# EAGLE library part RPI_ZERO_CONN (library dawidkulpa_con)
Raspberry Pi Zero 2x40 connector
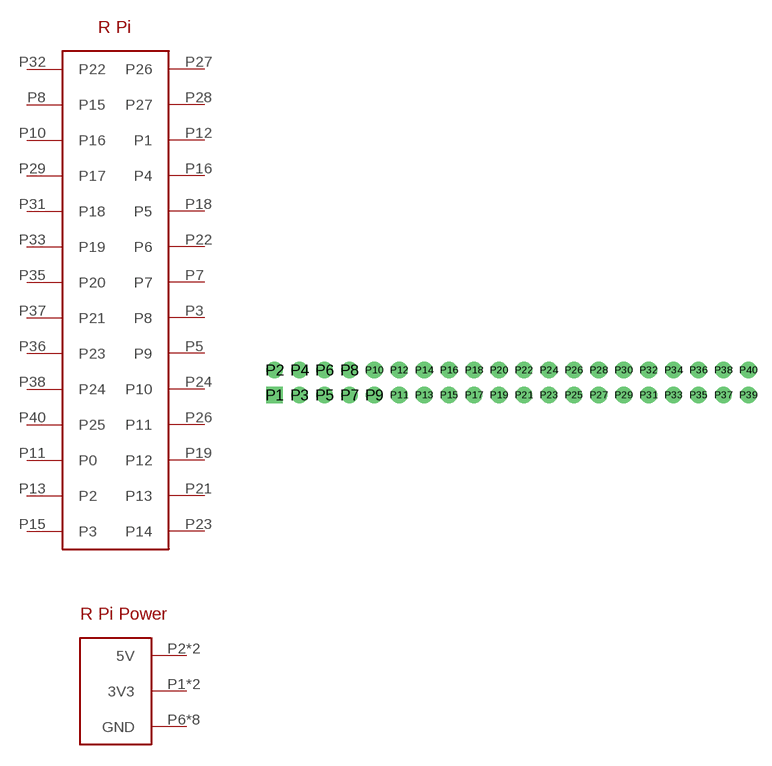
[diagram p1: symbol with the pads of GP_40M; footprint GP_40M]

Designator prefix -

## RPI_ZERO_CONN  [GP_40M]
P1  3V3
P2  5V
P3  P8
P4  5V
P5  P9
P6  GND
P7  P7
P8  P15
P9  GND
P10  P16
P11  P0
P12  P1
P13  P2
P14  GND
P15  P3
P16  P4
P17  3V3
P18  P5
P19  P12
P20  GND
P21  P13
P22  P6
P23  P14
P24  P10
P25  GND
P26  P11
P27  P26
P28  P27
P29  P17
P30  GND
P31  P18
P32  P22
P33  P19
P34  GND
P35  P20
P36  P23
P37  P21
P38  P24
P39  GND
P40  P25

## Footprint GP_40M (pad centres in mm)
drill 1 pad 1.7 square: P1 -24.13,-1.27
drill 1 pad 1.7: P2 -24.13,1.27; P3 -21.59,-1.27; P4 -21.59,1.27; P5 -19.05,-1.27; P6 -19.05,1.27; P7 -16.51,-1.27; P8 -16.51,1.27; P9 -13.97,-1.27; P10 -13.97,1.27; P11 -11.43,-1.27; P12 -11.43,1.27; P13 -8.89,-1.27; P14 -8.89,1.27; P15 -6.35,-1.27; P16 -6.35,1.27; P17 -3.81,-1.27; P18 -3.81,1.27; P19 -1.27,-1.27; P20 -1.27,1.27; P21 1.27,-1.27; P22 1.27,1.27; P23 3.81,-1.27; P24 3.81,1.27; P25 6.35,-1.27; P26 6.35,1.27; P27 8.89,-1.27; P28 8.89,1.27; P29 11.43,-1.27; P30 11.43,1.27; P31 13.97,-1.27; P32 13.97,1.27; P33 16.51,-1.27; P34 16.51,1.27; P35 19.05,-1.27; P36 19.05,1.27; P37 21.59,-1.27; P38 21.59,1.27; P39 24.13,-1.27; P40 24.13,1.27